# EAGLE library part HEATFLOW_MCP3911A0-E/* (library Sensor_Module_0x07_Heat_Flux)
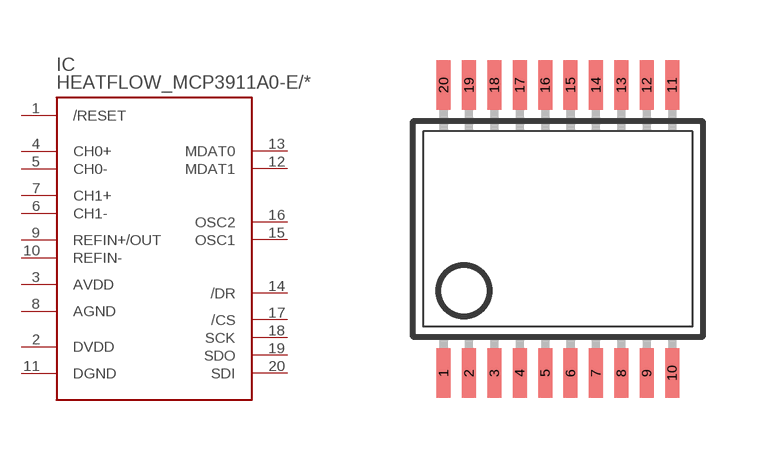
[diagram p1: symbol with the pads of HEATFLOW_SSOP20; footprint HEATFLOW_SSOP20]

Designator prefix IC

## HEATFLOW_MCP3911A0-E/SS  [HEATFLOW_SSOP20]
1  /RESET
2  DVDD
3  AVDD
4  CH0+
5  CH0-
6  CH1-
7  CH1+
8  AGND
9  REFIN+/OUT
10  REFIN-
11  DGND
12  MDAT1
13  MDAT0
14  /DR
15  OSC1
16  OSC2
17  /CS
18  SCK
19  SDO
20  SDI

## Footprint HEATFLOW_SSOP20 (pad centres in mm)
smd 0.35 x 1.245: 1 -2.857,-3.45; 2 -2.222,-3.45; 3 -1.587,-3.45; 4 -0.952,-3.45; 5 -0.317,-3.45; 6 0.318,-3.45; 7 0.953,-3.45; 8 1.588,-3.45; 9 2.223,-3.45; 10 2.858,-3.45; 11 2.858,3.75; 12 2.223,3.75; 13 1.588,3.75; 14 0.953,3.75; 15 0.318,3.75; 16 -0.317,3.75; 17 -0.952,3.75; 18 -1.587,3.75; 19 -2.222,3.75; 20 -2.857,3.75